# Altium footprint library Connector_RJ.PcbLib: 38 footprints (part 1 of 3)
Each footprint in its own frame and in the unit in brackets; x right, y up, seen from the top. Pads: shape width x height; smd on the part's side, far side on the other; paste and mask are expansions set on the pad; w line width, h text height; cw(c..) or ccw(c..) is an arc to the next point about the centre after c.
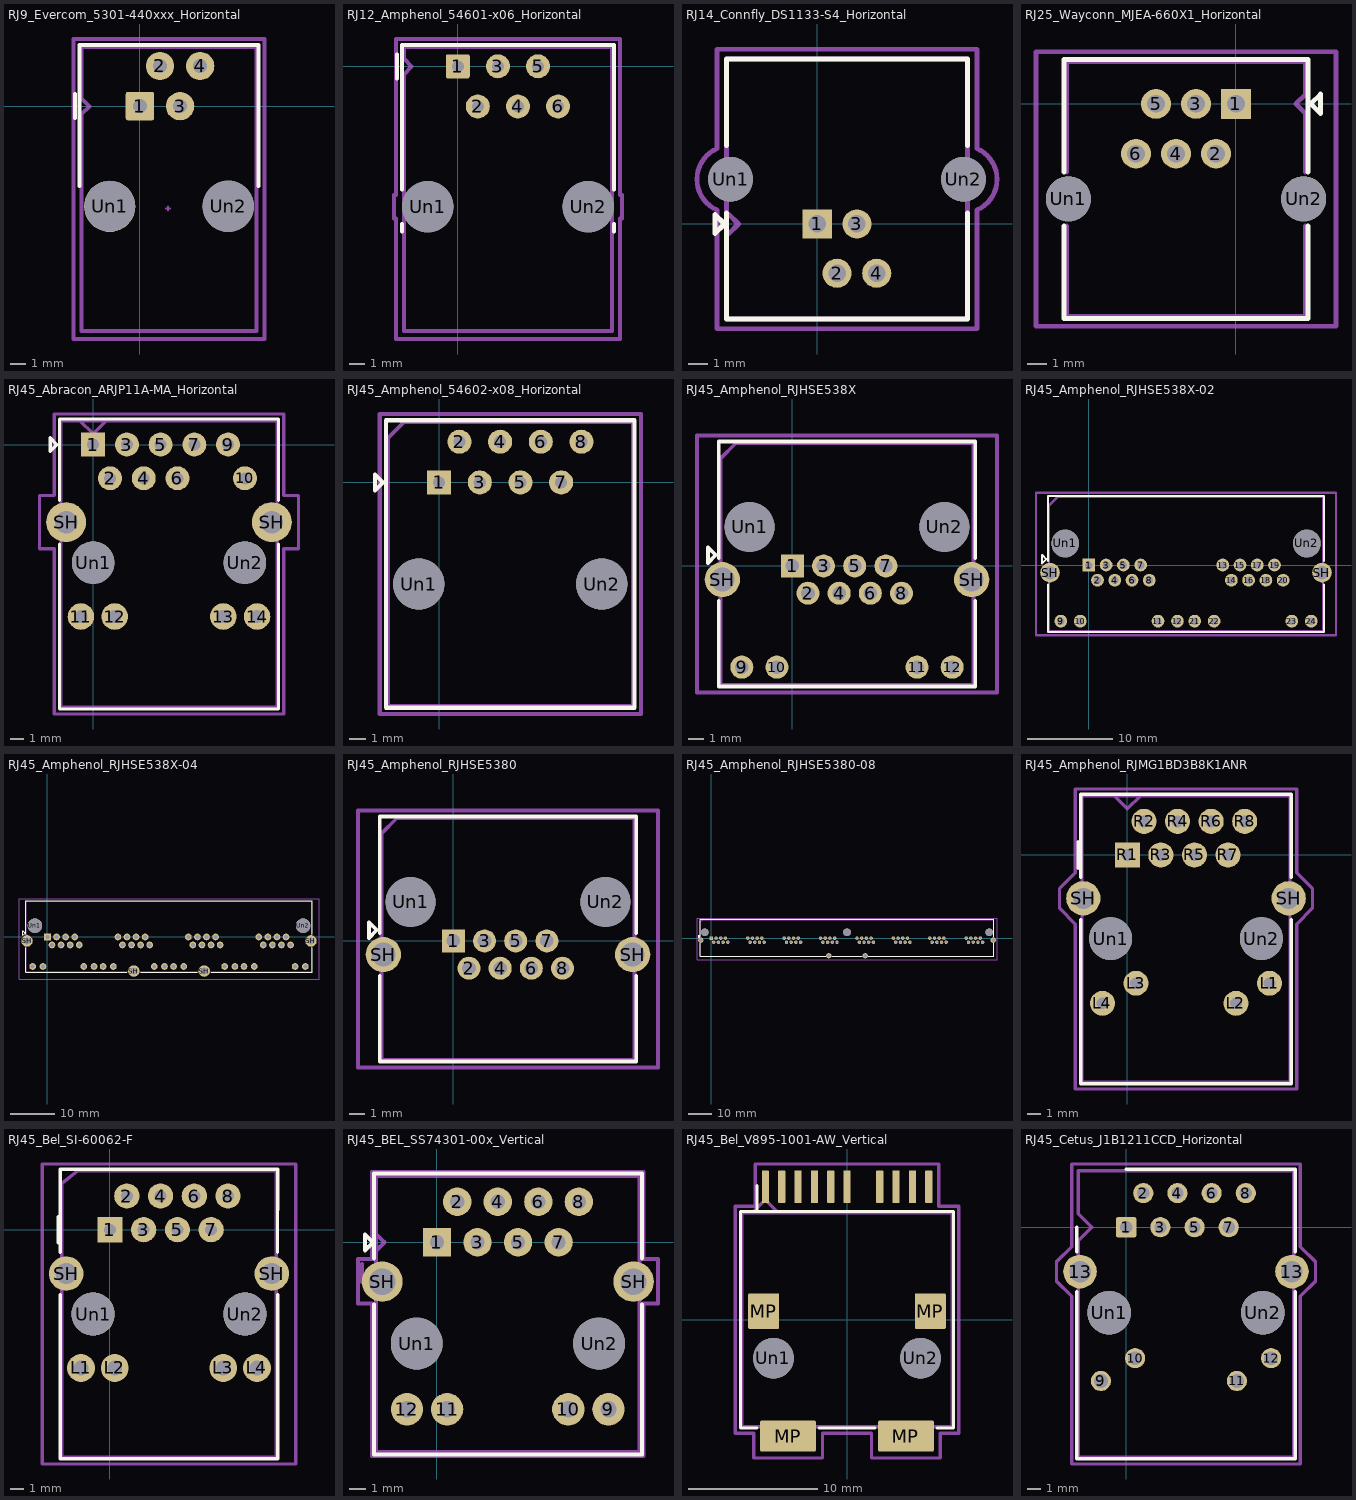
[diagram p0: the footprints below, top view; thin cyan lines are the x and y axes]

## RJ9_Evercom_5301-440xxx_Horizontal [mm]
pads (6):
  rrect14% 1.8x1.8 hole 0.9: 1(0,0)
  round 1.8 hole 0.9: 2(1.27,2.54) 3(2.54,0) 4(3.81,2.54)
  round 3.25 hole 3.2: Un1(-1.91,-6.35)
  round 3.25 hole 3.25: Un2(5.59,-6.35)
F.SilkS:
  lines w0.254: -4.11,-0.765 -4.11,0.765 ; -3.82,-5.05 -3.82,3.86 7.5,3.86 7.5,-5.05
Top Component Center:
  lines w0.127: 1.651,-6.477 1.905,-6.477 ; 1.778,-6.604 1.778,-6.35
Top Assembly:
  lines w0.254: -3.71,-14.25 -3.71,-0.515 -3.21,-0.015 -3.71,0.485 -3.71,3.75 7.39,3.75 7.39,-14.25 -3.71,-14.25
  text "'.Designator'" at -2.349,-5.806 h1
Top Courtyard:
  lines w0.254: -4.21,-14.75 -4.21,4.25 7.89,4.25 7.89,-14.75 -4.21,-14.75
Top Designator:
  text ".Designator" at -5.778,-5.758 h1.52

## RJ12_Amphenol_54601-x06_Horizontal [mm]
pads (8):
  rrect16% 1.52x1.52 hole 0.76: 1(0,0)
  round 1.52 hole 0.76: 2(1.27,-2.54) 3(2.54,0) 4(3.81,-2.54) 5(5.08,0) 6(6.35,-2.54)
  round 3.25 hole 3.25: Un1(-1.9,-8.89) Un2(8.26,-8.89)
F.SilkS:
  lines w0.254: -3.84,-0.77 -3.84,0.76 ; -3.53,-10.45 -3.53,-9.99 ; -3.53,-7.79 -3.53,1.34 9.89,1.34 9.89,-7.79 ; 9.89,-10.45 9.89,-9.99
Top Assembly:
  lines w0.254: -3.42,-16.77 9.78,-16.77 9.78,1.23 -3.42,1.23 -3.42,0.48 -2.92,-0.02 -3.42,-0.52 -3.42,-16.77
  text "'.Designator'" at 4.02,-11.817 h1
Top Courtyard:
  lines w0.254: -4.03,-9.64 -3.92,-9.64 -3.92,-17.27 10.28,-17.27 10.28,-9.64 10.39,-9.64 10.39,-8.14 10.28,-8.14 10.28,1.73 -3.92,1.73 -3.92,-8.14 -4.03,-8.14 -4.03,-9.64
Top Designator:
  text ".Designator" at -4.438,-8.278 h1.52

## RJ14_Connfly_DS1133-S4_Horizontal [mm]
pads (6):
  rect 1.5x1.5 hole 0.9: 1(0,0)
  round 1.5 hole 0.9: 2(1.02,-2.54) 3(2.04,0) 4(3.06,-2.54)
  round 2.3 hole 2.3: Un1(-4.47,2.3) Un2(7.53,2.3)
F.SilkS:
  lines w0.254: -4.67,0.57 -4.67,-4.9 7.73,-4.9 7.73,0.57 ; -4.67,4.03 -4.67,8.5 7.73,8.5 7.73,4.03 ; -5.28,-0.5 -4.78,0 -5.28,0.5 -5.28,-0.5
Top Assembly:
  lines w0.254: -4.57,-0.5 -4.06,0 -4.57,0.5 ; -4.67,-4.9 7.73,-4.9 7.73,8.5 -4.67,8.5 -4.67,-4.9
  text "'.Designator'" at -3.017,4.38 h1
Top Courtyard:
  lines w0.254: -5.17,-5.4 8.23,-5.4 8.23,0.72 ccw(c7.53,2.3) 8.23,3.88 8.23,9 -5.17,9 -5.17,3.88 ccw(c-4.47,2.3) -5.17,0.72 -5.17,-5.4
Top Designator:
  text ".Designator" at -6.088,1.292 h1.52

## RJ25_Wayconn_MJEA-660X1_Horizontal [mm]
pads (8):
  rect 1.52x1.52 hole 0.9: 1(0,0)
  round 1.52 hole 0.9: 2(-1.02,-2.54) 3(-2.04,0) 4(-3.06,-2.54) 5(-4.08,0) 6(-5.1,-2.54)
  round 2.3 hole 2.3: Un1(-8.55,-4.84) Un2(3.45,-4.84)
F.SilkS:
  lines w0.254: -8.76,-6.22 -8.76,-10.95 3.66,-10.95 3.66,-6.22 ; -8.76,-3.47 -8.76,2.27 3.66,2.27 3.66,-3.47 ; 3.82,0 4.32,0.5 4.32,-0.5 3.82,0
Top Assembly:
  lines w0.254: -8.65,-6.22 -8.65,-10.84 3.55,-10.84 3.55,-6.22 ; -8.65,-3.47 -8.65,2.16 3.55,2.16 3.55,0.5 3.05,0 3.55,-0.5 3.55,-3.47
  text "'.Designator'" at -6.597,-5.285 h1
Top Courtyard:
  lines w0.254: -10.2,-11.34 5.1,-11.34 5.1,2.66 -10.2,2.66 -10.2,-11.34
Top Designator:
  text ".Designator" at -10.168,-4.848 h1.52

## RJ45_Abracon_ARJP11A-MA_Horizontal [mm]
pads (17):
  rect 1.8x1.8 hole 0.9: 1(0,0)
  round 1.8 hole 0.9: 2(1.27,-2.54) 3(2.54,0) 4(3.81,-2.54) 5(5.08,0) 6(6.35,-2.54) 7(7.62,0) 9(10.16,0) 10(11.43,-2.54)
  round 2 hole 1: 11(-0.92,-12.95) 12(1.62,-12.95) 13(9.8,-12.95) 14(12.34,-12.95)
  round 3 hole 1.7: SH(-2.04,-5.84) SH(13.46,-5.84)
  round 3.2 hole 3.2: Un1(0,-8.89) Un2(11.43,-8.89)
F.SilkS:
  lines w0.254: -2.54,-7.51 -2.54,-19.91 13.96,-19.91 13.96,-7.51 ; -2.54,-4.21 -2.54,1.92 13.96,1.92 13.96,-4.21 ; -3.24,-0.5 -2.74,0 -3.24,0.5 -3.24,-0.5
Top Assembly:
  lines w0.254: -1,1.8 0,0.8 1,1.8 ; -2.42,-19.79 13.84,-19.79 13.84,1.8 -2.42,1.8 -2.42,-19.79
  text "'.Designator'" at 1.663,-5.56 h1
Top Courtyard:
  lines w0.254: -4.04,-7.84 -2.92,-7.84 -2.92,-20.29 14.34,-20.29 14.34,-7.84 15.46,-7.84 15.46,-3.84 14.34,-3.84 14.34,2.3 -2.92,2.3 -2.92,-3.84 -4.04,-3.84 -4.04,-7.84
Top Designator:
  text ".Designator" at -1.908,-9.503 h1.52

## RJ45_Amphenol_54602-x08_Horizontal [mm]
pads (10):
  rect 1.5x1.5 hole 0.76: 1(0,0)
  round 1.5 hole 0.76: 2(1.27,2.54) 3(2.54,0) 4(3.81,2.54) 5(5.08,0) 6(6.35,2.54) 7(7.62,0) 8(8.89,2.54)
  round 3.2 hole 3.2: Un1(-1.27,-6.35) Un2(10.16,-6.35)
F.SilkS:
  lines w0.254: -4,-0.5 -3.5,0 -4,0.5 -4,-0.5 ; -3.315,-14.08 12.205,-14.08 12.205,3.88 -3.315,3.88 -3.315,-14.08
Top Assembly:
  lines w0.254: -3.205,-13.97 12.095,-13.97 12.095,3.77 -2.205,3.77 -3.205,2.77 -3.205,-13.97
  text "'.Designator'" at 0.398,-2.84 h1
Top Courtyard:
  lines w0.254: -3.71,-14.47 12.6,-14.47 12.6,4.27 -3.71,4.27 -3.71,-14.47
Top Designator:
  text ".Designator" at -3.318,-5.608 h1.52

## RJ45_Amphenol_RJHSE538X [mm]
pads (16):
  rect 1.5x1.5 hole 0.89: 1(0,0)
  round 1.5 hole 0.89: 2(1.016,-1.78) 3(2.032,0) 4(3.048,-1.78) 5(4.064,0) 6(5.08,-1.78) 7(6.096,0) 8(7.112,-1.78) 9(-3.3,-6.6) 10(-1.01,-6.6) 11(8.13,-6.6) 12(10.42,-6.6)
  round 2.3 hole 1.57: SH(-4.57,-0.89) SH(11.69,-0.89)
  round 3.25 hole 3.25: Un1(-2.79,2.54) Un2(9.91,2.54)
F.SilkS:
  lines w0.254: -4.805,-2.3 -4.805,-7.86 11.925,-7.86 11.925,-2.3 ; -4.805,0.5 -4.805,8.11 11.925,8.11 11.925,0.5 ; -5.5,0.2 -5,0.7 -5.5,1.2 -5.5,0.2
Top Assembly:
  lines w0.254: -4.695,-7.75 11.815,-7.75 11.815,8 -3.695,8 -4.695,7 -4.695,-7.75
  text "'.Designator'" at -0.487,5.16 h1
Top Courtyard:
  lines w0.254: -6.22,-8.25 13.34,-8.25 13.34,8.5 -6.22,8.5 -6.22,-8.25
Top Designator:
  text ".Designator" at -4.058,-0.383 h1.52

## RJ45_Amphenol_RJHSE538X-02 [mm]
pads (28):
  rect 1.5x1.5 hole 0.89: 1(0,0)
  round 1.5 hole 0.89: 2(1.016,-1.78) 3(2.032,0) 4(3.048,-1.78) 5(4.064,0) 6(5.08,-1.78) 7(6.096,0) 8(7.112,-1.78) 9(-3.3,-6.6) 10(-1.01,-6.6) 11(8.13,-6.6) 12(10.42,-6.6) 13(15.75,0) 14(16.766,-1.78) 15(17.782,0) 16(18.798,-1.78) 17(19.814,0) 18(20.83,-1.78) 19(21.846,0) 20(22.862,-1.78) 21(12.45,-6.6) 22(14.74,-6.6) 23(23.88,-6.6) 24(26.17,-6.6)
  round 2.3 hole 1.57: SH(-4.57,-0.89) SH(27.43,-0.89)
  round 3.25 hole 3.25: Un1(-2.79,2.54) Un2(25.66,2.54)
F.SilkS:
  lines w0.254: -4.805,-2.3 -4.805,-7.86 27.675,-7.86 ; -4.805,0.5 -4.805,8.11 27.675,8.11 27.675,0.5 ; 27.675,-7.815 27.675,-2.3 ; -5.5,0.2 -5,0.7 -5.5,1.2 -5.5,0.2
Top Assembly:
  lines w0.254: -4.695,-7.75 27.565,-7.75 27.565,8 -3.695,8 -4.695,7 -4.695,-7.75
  text "'.Designator'" at 7.383,5.16 h1
Top Courtyard:
  lines w0.254: -6.22,-8.25 29.08,-8.25 29.08,8.5 -6.22,8.5 -6.22,-8.25
Top Designator:
  text ".Designator" at 3.812,-0.383 h1.52

## RJ45_Amphenol_RJHSE538X-04 [mm]
pads (54):
  rect 1.5x1.5 hole 0.89: 1(0,0)
  round 1.5 hole 0.89: 2(1.016,-1.78) 3(2.032,0) 4(3.048,-1.78) 5(4.064,0) 6(5.08,-1.78) 7(6.096,0) 8(7.112,-1.78) 9(-3.3,-6.6) 10(-1.01,-6.6) 11(8.13,-6.6) 12(10.42,-6.6) 13(15.75,0) 14(16.766,-1.78) 15(17.782,0) 16(18.798,-1.78) 17(19.814,0) 18(20.83,-1.78) 19(21.846,0) 20(22.862,-1.78) 21(12.45,-6.6) 22(14.74,-6.6) 23(23.88,-6.6) 24(26.17,-6.6) 25(31.5,0) 26(32.516,-1.78) 27(33.532,0) 28(34.548,-1.78) 29(35.564,0) 30(36.58,-1.78) 31(37.596,0) 32(38.612,-1.78) 33(28.2,-6.6) 34(30.49,-6.6) 35(39.63,-6.6) 36(41.92,-6.6) 37(47.25,0) 38(48.266,-1.78) 39(49.282,0) 40(50.298,-1.78) 41(51.314,0) 42(52.33,-1.78) 43(53.346,0) 44(54.362,-1.78) 45(43.95,-6.6) 46(46.24,-6.6) 47(55.38,-6.6) 48(57.67,-6.6)
  round 2.57 hole 1.57: SH(-4.57,-0.89) SH(19.31,-7.62) SH(35.06,-7.62) SH(58.93,-0.89)
  round 3.25 hole 3.25: Un1(-2.79,2.54) Un2(57.15,2.54)
F.SilkS:
  lines w0.254: -4.805,-2.42 -4.805,-7.86 17.78,-7.86 ; -4.805,0.64 -4.805,8.11 59.175,8.11 59.175,0.64 ; 20.84,-7.86 33.53,-7.86 ; 36.59,-7.86 59.175,-7.86 59.175,-2.4 ; -5.5,0.35 -5,0.85 -5.5,1.35 -5.5,0.35
Top Assembly:
  lines w0.254: -4.695,-7.75 59.065,-7.75 59.065,8 -4.695,8 -4.695,0.5 -4.2,0 -4.695,-0.5 -4.695,-7.75
  text "'.Designator'" at 23.703,6.16 h1
Top Courtyard:
  lines w0.254: -6.36,-9.41 60.72,-9.41 60.72,8.5 -6.36,8.5 -6.36,-9.41
Top Designator:
  text ".Designator" at 19.562,-0.963 h1.52

## RJ45_Amphenol_RJHSE5380 [mm]
pads (12):
  rect 1.5x1.5 hole 0.89: 1(0,0)
  round 1.5 hole 0.89: 2(1.016,-1.78) 3(2.032,0) 4(3.048,-1.78) 5(4.064,0) 6(5.08,-1.78) 7(6.096,0) 8(7.112,-1.78)
  round 2.3 hole 1.57: SH(-4.57,-0.89) SH(11.69,-0.89)
  round 3.25 hole 3.25: Un1(-2.79,2.54) Un2(9.91,2.54)
F.SilkS:
  lines w0.254: -4.805,-7.86 -4.805,-2.3 ; -4.805,0.5 -4.805,8.11 ; -4.76,-7.86 11.925,-7.86 11.925,-2.3 ; -4.76,8.11 11.88,8.11 ; 11.925,0.5 11.925,8.11 ; -5.5,0.2 -5,0.7 -5.5,1.2 -5.5,0.2
Top Assembly:
  lines w0.254: -4.695,-7.75 11.815,-7.75 11.815,8 -3.695,8 -4.695,7 -4.695,-7.75
  text "'.Designator'" at -0.487,5.16 h1
Top Courtyard:
  lines w0.254: -6.22,-8.25 13.34,-8.25 13.34,8.5 -6.22,8.5 -6.22,-8.25
Top Designator:
  text ".Designator" at -4.058,-0.383 h1.52

## RJ45_Amphenol_RJHSE5380-08 [mil]
pads (71):
  rect 59x59 hole 35: 1(0,0)
  round 59 hole 35: 2(40,-70) 3(80,0) 4(120,-70) 5(160,0) 6(200,-70) 7(240,0) 8(280,-70) 9(620,0) 10(660,-70) 11(700,0) 12(740,-70) 13(780,0) 14(820,-70) 15(860,0) 16(900,-70) 17(1240,0) 18(1280,-70) 19(1320,0) 20(1360,-70) 21(1400,0) 22(1440,-70) 23(1480,0) 24(1520,-70) 25(1860,0) 26(1900,-70) 27(1940,0) 28(1980,-70) 29(2020,0) 30(2060,-70) 31(2100,0) 32(2140,-70) 33(2480,0) 34(2520,-70) 35(2560,0) 36(2600,-70) 37(2640,0) 38(2680,-70) 39(2720,0) 40(2760,-70) 41(3100,0) 42(3140,-70) 43(3180,0) 44(3220,-70) 45(3260,0) 46(3300,-70) 47(3340,0) 48(3380,-70) 49(3720,0) 50(3760,-70) 51(3800,0) 52(3840,-70) 53(3880,0) 54(3920,-70) 55(3960,0) 56(4000,-70) 57(4340,0) 58(4380,-70) 59(4420,0) 60(4460,-70) 61(4500,0) 63(4580,0) 64(4620,-70)
  round 59 hole 35.04: 62(4540,-70)
  round 90 hole 62: SH(-180,-35) SH(2000,-300) SH(2620,-300) SH(4800,-35)
  round 128 hole 127.95: Un1(-110,100)
  round 128 hole 128: Un2(2310,100) Un3(4730,100)
F.SilkS:
  lines w10: -189.33,-309.45 -189.33,-90.55 ; -189.33,-309.33 1944.88,-309.33 ; -189.33,19.68 -189.33,319.33 ; -189.17,319.33 4809.33,319.33 4809.33,19.68 ; 2055.12,-309.33 2564.96,-309.33 ; 2675.2,-309.33 4809.33,-309.33 4809.33,-90.55 ; -216.54,7.87 -196.85,27.56 -216.54,47.24 -216.54,7.87
Top Assembly:
  lines w10: 4805,-305.12 4805,314.96 ; 4805,-305 -185,-305 -185,275 -145,315 4805,315
  text "'.Designator'" at 2150.91,203.14 h39.37
Top Courtyard:
  lines w10: -244.49,-364.57 4864.57,-364.57 4864.57,334.65 -244.49,334.65 -244.49,-364.57
Top Designator:
  text ".Designator" at 2010.14,-34.95 h60

## RJ45_Amphenol_RJMG1BD3B8K1ANR [mm]
pads (16):
  round 1.89 hole 0.89: L1(10.77,-9.72) L2(8.23,-11.24) L3(0.66,-9.72) L4(-1.88,-11.24)
  rect 1.9x1.9 hole 0.9: R1(0,0)
  round 1.9 hole 0.9: R2(1.27,2.54) R3(2.54,0) R4(3.81,2.54) R5(5.08,0) R6(6.35,2.54) R7(7.62,0) R8(8.89,2.54)
  round 2.6 hole 1.6: SH(-3.33,-3.29) SH(12.22,-3.29)
  round 3.25 hole 3.25: Un1(-1.27,-6.34) Un2(10.16,-6.34)
F.SilkS:
  lines w0.254: -3.73,-1 -3.73,1 ; -3.53,-4.89 -3.53,-17.33 12.42,-17.33 12.42,-4.89 ; -3.53,-1.69 -3.53,4.59 12.42,4.59 12.42,-1.69
Top Assembly:
  lines w0.254: -1,4.49 0,3.49 1,4.49 ; -3.43,-17.23 12.32,-17.23 12.32,4.49 -3.43,4.49 -3.43,-17.23
  text "'.Designator'" at 0.398,-7.21 h1
Top Courtyard:
  lines w0.254: -5.13,-4.04 -3.93,-5.24 -3.93,-17.73 12.82,-17.73 12.82,-5.24 14.02,-4.04 14.02,-2.54 12.82,-1.34 12.82,4.99 -3.93,4.99 -3.93,-1.34 -5.13,-2.54 -5.13,-4.04
Top Designator:
  text ".Designator" at -3.173,-6.878 h1.52

## RJ45_Bel_SI-60062-F [mm]
pads (16):
  rect 1.9x1.9 hole 0.9: 1(0,0)
  round 1.9 hole 0.9: 2(1.27,2.54) 3(2.54,0) 4(3.81,2.54) 5(5.08,0) 6(6.35,2.54) 7(7.62,0) 8(8.89,2.54)
  round 2.1 hole 1.1: L1(-2.18,-10.41) L2(0.36,-10.41) L3(8.53,-10.41) L4(11.07,-10.41)
  round 2.6 hole 1.6: SH(-3.3,-3.3) SH(12.19,-3.3)
  round 3.25 hole 3.25: Un1(-1.27,-6.35) Un2(10.16,-6.35)
F.SilkS:
  lines w0.254: -3.915,-1 -3.915,1 ; -3.73,-4.89 -3.73,-17.24 12.62,-17.24 12.62,-4.89 ; -3.73,-1.69 -3.73,4.55 12.62,4.55 12.615,-1.69
Top Assembly:
  lines w0.254: -3.62,-17.14 12.51,-17.14 12.51,4.45 -2.435,4.45 -3.62,3.49 -3.62,-17.14
  text "'.Designator'" at 0.398,-7.21 h1
Top Courtyard:
  lines w0.254: -5.1,-17.64 13.99,-17.64 13.99,4.95 -5.1,4.95 -5.1,-17.64
Top Designator:
  text ".Designator" at -3.173,-6.853 h1.52

## RJ45_BEL_SS74301-00x_Vertical [mil]
pads (16):
  rect 70x70 hole 35: 1(0,0)
  round 70 hole 35: 2(50,100) 3(100,0) 4(150,100) 5(200,0) 6(250,100) 7(300,0) 8(350,100)
  round 80 hole 40: 9(423,-412) 10(324,-412) 11(25,-412) 12(-74,-412)
  round 100 hole 65: SH(-135,-97) SH(485,-97)
  round 128 hole 128: Un1(-50,-250) Un2(400,-250)
F.SilkS:
  lines w10: -155.51,-523.62 505.91,-523.62 505.91,-153.54 ; -155.51,-519.68 -155.51,-153.54 ; -155.51,-39.37 -155.51,169.29 505.91,169.29 505.91,-39.37 ; -177.17,-19.68 -157.48,0 -177.17,19.68 -177.17,-19.68
Top Assembly:
  lines w10: -185.04,-98.43 -185.04,-53.15 ; -149.61,-19.68 -129.92,0 -149.61,19.68 ; -150,-517 500,-517 500,163 -150,163 -150,-517
  text "'.Designator'" at 15.68,-224.03 h39.37
Top Courtyard:
  lines w10: -194.88,-151.57 -159.84,-151.57 -159.84,-526.77 509.84,-526.77 509.84,-151.57 545.28,-151.57 545.28,-41.34 509.84,-41.34 509.84,172.83 -159.84,172.83 -159.84,-41.34 -194.88,-41.34 -194.88,-151.57
Top Designator:
  text ".Designator" at -124.71,-196.96 h60

## RJ45_Bel_V895-1001-AW_Vertical [mm]
pads (16):
  rrect25% 0.56x2.54 smd: 1(-6.345,10.34) 2(-5.075,10.34) 3(-3.805,10.34) 4(-2.535,10.34) 5(-1.265,10.34) 6(0.005,10.34) 7(2.545,10.34) 8(3.815,10.34) 9(5.085,10.34) 10(6.355,10.34)
  rrect10% 2.41x2.79 smd: MP(-6.475,0.665) MP(6.475,0.665)
  rrect10% 4.34x2.41 smd: MP(-4.585,-9.045) MP(4.585,-9.045)
  round 3.17 hole 3.17: Un1(-5.715,-2.99) Un2(5.715,-2.99)
F.SilkS:
  lines w0.254: -7.015,-8.42 -8.28,-8.42 -8.28,8.42 8.28,8.42 8.28,-8.42 7.015,-8.42 ; -7,8.42 -7,10.42 ; -2.155,-8.42 2.155,-8.42
Top Assembly:
  lines w0.254: -7.35,8.32 -6.35,9.32 -5.35,8.32 ; -8.18,-8.32 8.18,-8.32 8.18,8.32 -8.18,8.32 -8.18,-8.32
  text "'.Designator'" at -4.047,-0.84 h1
Top Courtyard:
  lines w0.254: -8.68,-8.82 -7.26,-8.82 -7.26,-10.75 -1.91,-10.75 -1.91,-8.82 1.91,-8.82 1.91,-10.75 7.26,-10.75 7.26,-8.82 8.68,-8.82 8.68,8.82 7.14,8.82 7.14,12.11 -7.13,12.11 -7.13,8.82 -8.68,8.82 -8.68,-8.82
Top Designator:
  text ".Designator" at -7.618,0.172 h1.52

## RJ45_Cetus_J1B1211CCD_Horizontal [mm]
pads (16):
  rrect17% 1.5x1.5 hole 0.9: 1(0,0)
  round 1.5 hole 0.9: 2(1.27,2.54) 3(2.54,0) 4(3.81,2.54) 5(5.08,0) 6(6.35,2.54) 7(7.62,0) 8(8.89,2.54)
  round 1.5 hole 1.02: 9(-1.88,-11.43) 10(0.66,-9.73) 11(8.23,-11.43) 12(10.77,-9.73)
  round 2.5 hole 1.6: 13(-3.43,-3.3) 13(12.32,-3.3)
  round 3.25 hole 3.25: Un1(-1.27,-6.35) Un2(10.16,-6.35)
F.SilkS:
  lines w0.254: -3.67,-4.8 -3.67,-17.21 12.56,-17.21 12.56,-4.79 ; -3.67,-1.81 -3.67,0 ; 0,4.31 12.56,4.31 12.56,-1.81
Top Assembly:
  lines w0.254: -3.555,-17.1 12.445,-17.1 12.445,4.2 -3.555,4.2 -3.555,1 -2.555,0 -3.555,-1 -3.555,-17.1
  text "'.Designator'" at -0.047,-16.84 h1
Top Courtyard:
  lines w0.254: -5.18,-4.02 -4.06,-5.14 -4.06,-17.6 12.95,-17.6 12.95,-5.14 14.07,-4.02 14.07,-2.57 12.95,-1.45 12.95,4.7 -4.06,4.7 -4.06,-1.45 -5.18,-2.57 -5.18,-4.02
Top Designator:
  text ".Designator" at -3.173,-6.958 h1.52